# Altium footprint library Battery.PcbLib: 2 footprints
Each footprint in its own frame and in the unit in brackets; x right, y up, seen from the top. Pads: shape width x height; smd on the part's side, far side on the other; paste and mask are expansions set on the pad; w line width, h text height; cw(c..) or ccw(c..) is an arc to the next point about the centre after c.
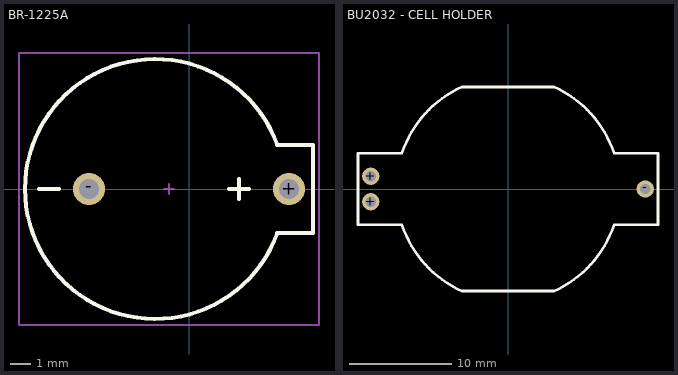
[diagram p0: the footprints below, top view; thin cyan lines are the x and y axes]

## BR-1225A [mm]
height 3
pads (2):
  round 1.6 hole 1: +(5,0) -(-5,0)
Top Overlay:
  lines w0.2: -7.5,0 -6.5,0 ; 2,0 3,0 ; 2.5,-0.5 2.5,0.5 ; 4.408,-2.223 cw(c-1.7,0) 4.408,2.223 ; 4.408,-2.2 6.2,-2.2 6.2,2.2 4.408,2.2
Mechanical 15:
  lines w0.1: -1.25,0 -0.75,0 ; -1,-0.25 -1,0.25 ; -8.5,-6.8 6.5,-6.8 6.5,6.8 -8.5,6.8 -8.5,-6.8
3D body: height 5.15, standoff -3.05, extent -7.9,-6.3 5.1,6.3

## BU2032 - CELL HOLDER [mm]
pads (3):
  round 1.7 hole 1: +(-13.45,-1.25) +(-13.45,1.25) -(13.45,0)
Top Overlay:
  lines w0.254: -4.503,-10.007 cw(c0,0) -10.4,-3.5 -14.7,-3.5 -14.7,3.5 -10.4,3.5 cw(c0,0) -4.503,10.007 ; -4.503,-10 0,-10 4.503,-10 ; -4.503,10 0,10 4.503,10 ; 4.503,-10.007 ccw(c0,0) 10.4,-3.5 14.7,-3.5 14.7,3.5 10.4,3.5 ccw(c0,0) 4.503,10.007
3D body: height 5.3, standoff -3.75, extent -14.5,-10 14.5,10